# Altium schematic symbol library 5050040812.SchLib: 1 symbol
Pins are listed as number, name and electrical type; pins without a type are passive.

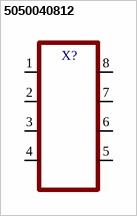
[diagram p0: symbol 5050040812]

## 5050040812
designator X?
pins: 1, 2, 3, 4, 5, 6, 7, 8